# Altium schematic symbol library ANALOG_DEVICES.SchLib: 1 symbol
Pins are listed as number, name and electrical type; pins without a type are passive.

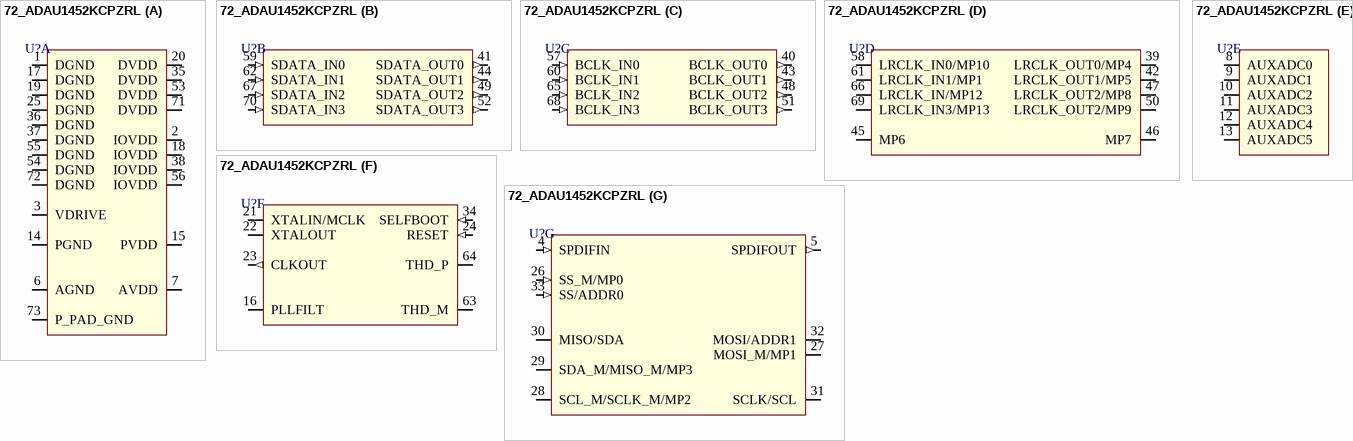
[diagram p0: symbol 72_ADAU1452KCPZRL]

## 72_ADAU1452KCPZRL
designator U?  (value not drawn)
DSP,4xI2S,I2C,SPI,1.2V-3.6V,16channels, 10 bit resolution, max_clk = 294MHz
footprint QFN-72_ADAU1452 (DSP,4xI2S,I2C,SPI,1.2V-3.6V,16channels, 10 bit resolution, max_clk = 294MHz)
part A pins: 1 DGND (power), 2 IOVDD (power), 3 VDRIVE (power), 6 AGND (power), 7 AVDD (power), 14 PGND (power), 15 PVDD (power), 17 DGND (power), 18 IOVDD (power), 19 DGND (power), 20 DVDD (power), 25 DGND (power), 35 DVDD (power), 36 DGND (power), 37 DGND (power), 38 IOVDD (power), 53 DVDD (power), 54 DGND (power), 55 DGND (power), 56 IOVDD (power), 71 DVDD (power), 72 DGND (power), 73 P_PAD_GND (power)
part B pins: 41 SDATA_OUT0 (out), 44 SDATA_OUT1 (out), 49 SDATA_OUT2 (out), 52 SDATA_OUT3 (out), 59 SDATA_IN0 (in), 62 SDATA_IN1 (in), 67 SDATA_IN2 (in), 70 SDATA_IN3 (in)
part C pins: 40 BCLK_OUT0 (out), 43 BCLK_OUT1 (out), 48 BCLK_OUT2 (out), 51 BCLK_OUT3 (out), 57 BCLK_IN0 (in), 60 BCLK_IN1 (in), 65 BCLK_IN2 (in), 68 BCLK_IN3 (in)
part D pins: 39 LRCLK_OUT0/MP4 (io), 42 LRCLK_OUT1/MP5 (io), 45 MP6 (io), 46 MP7 (io), 47 LRCLK_OUT2/MP8 (io), 50 LRCLK_OUT2/MP9 (io), 58 LRCLK_IN0/MP10 (io), 61 LRCLK_IN1/MP1 (io), 66 LRCLK_IN/MP12 (io), 69 LRCLK_IN3/MP13 (io)
part E pins: 8 AUXADC0 (io), 9 AUXADC1 (io), 10 AUXADC2 (io), 11 AUXADC3 (io), 12 AUXADC4 (io), 13 AUXADC5 (io)
part F pins: 16 PLLFILT, 21 XTALIN/MCLK, 22 XTALOUT, 23 CLKOUT (out), 24 RESET (in), 34 SELFBOOT (in), 63 THD_M, 64 THD_P
part G pins: 4 SPDIFIN (in), 5 SPDIFOUT (out), 26 SS_M/MP0 (in), 27 MOSI_M/MP1 (io), 28 SCL_M/SCLK_M/MP2 (io), 29 SDA_M/MISO_M/MP3 (io), 30 MISO/SDA (io), 31 SCLK/SCL (io), 32 MOSI/ADDR1 (io), 33 SS/ADDR0 (in)